# EAGLE library part UMIRF (library netnode)
uMiRF uMiRF 2.4 GHz RF module from SparkFun By L. Hollevoet, 2005
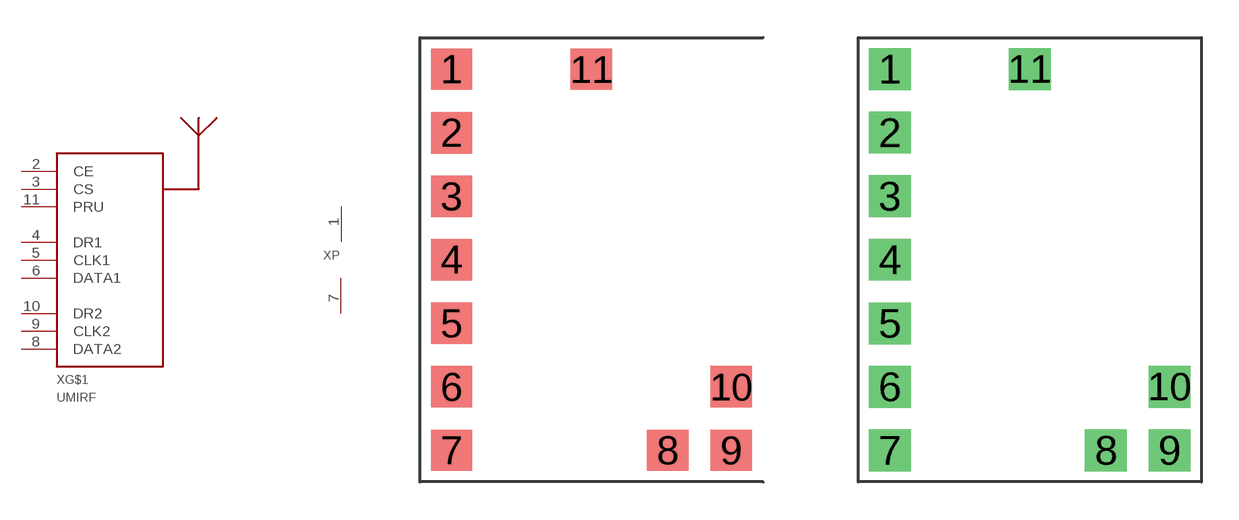
[diagram p0: symbol with the pads of UMIRF; footprints UMIRF, UMIRF_THROUGH_HOLES]

Designator prefix X; gates G$1=UMIRF P=UMIRF_POWER

## UMIRFSMD  [UMIRF]
1  P:VCC  pwr
2  G$1:CE  in
3  G$1:CS  in
4  G$1:DR1  out
5  G$1:CLK1
6  G$1:DATA1
7  P:GND  pwr
8  G$1:DATA2
9  G$1:CLK2
10  G$1:DR2  out
11  G$1:PRU  in

## UMIRFTH  [UMIRF_THROUGH_HOLES]
Pads as for UMIRF

## Footprint UMIRF (pad centres in mm)
uMiRF package SMD package for the uMiRF module from Sparkfun. The keepout and restrict areas are required for antenna performance By Lieven Hollevoet, 2005
smd 1.651 x 1.651: 1 -7.62,7.62; 2 -7.62,5.08; 3 -7.62,2.54; 4 -7.62,0; 5 -7.62,-2.54; 6 -7.62,-5.08; 7 -7.62,-7.62; 8 1.016,-7.62; 9 3.556,-7.62; 10 3.556,-5.08; 11 -2.032,7.62

## Footprint UMIRF_THROUGH_HOLES (pad centres in mm)
uMiRF package SMD package for the uMiRF module from Sparkfun. The keepout and restrict areas are required for antenna performance By Lieven Hollevoet, 2005
drill 0.8 pad 1.676 square: 1 -7.62,7.62; 2 -7.62,5.08; 3 -7.62,2.54; 4 -7.62,0; 5 -7.62,-2.54; 6 -7.62,-5.08; 7 -7.62,-7.62; 8 1.016,-7.62; 9 3.556,-7.62; 10 3.556,-5.08; 11 -2.032,7.62